# Altium footprint library kwPower.pcblib: 50 footprints (part 3 of 4)
Each footprint in its own frame and in the unit in brackets; x right, y up, seen from the top. Pads: shape width x height; smd on the part's side, far side on the other; paste and mask are expansions set on the pad; w line width, h text height; cw(c..) or ccw(c..) is an arc to the next point about the centre after c.
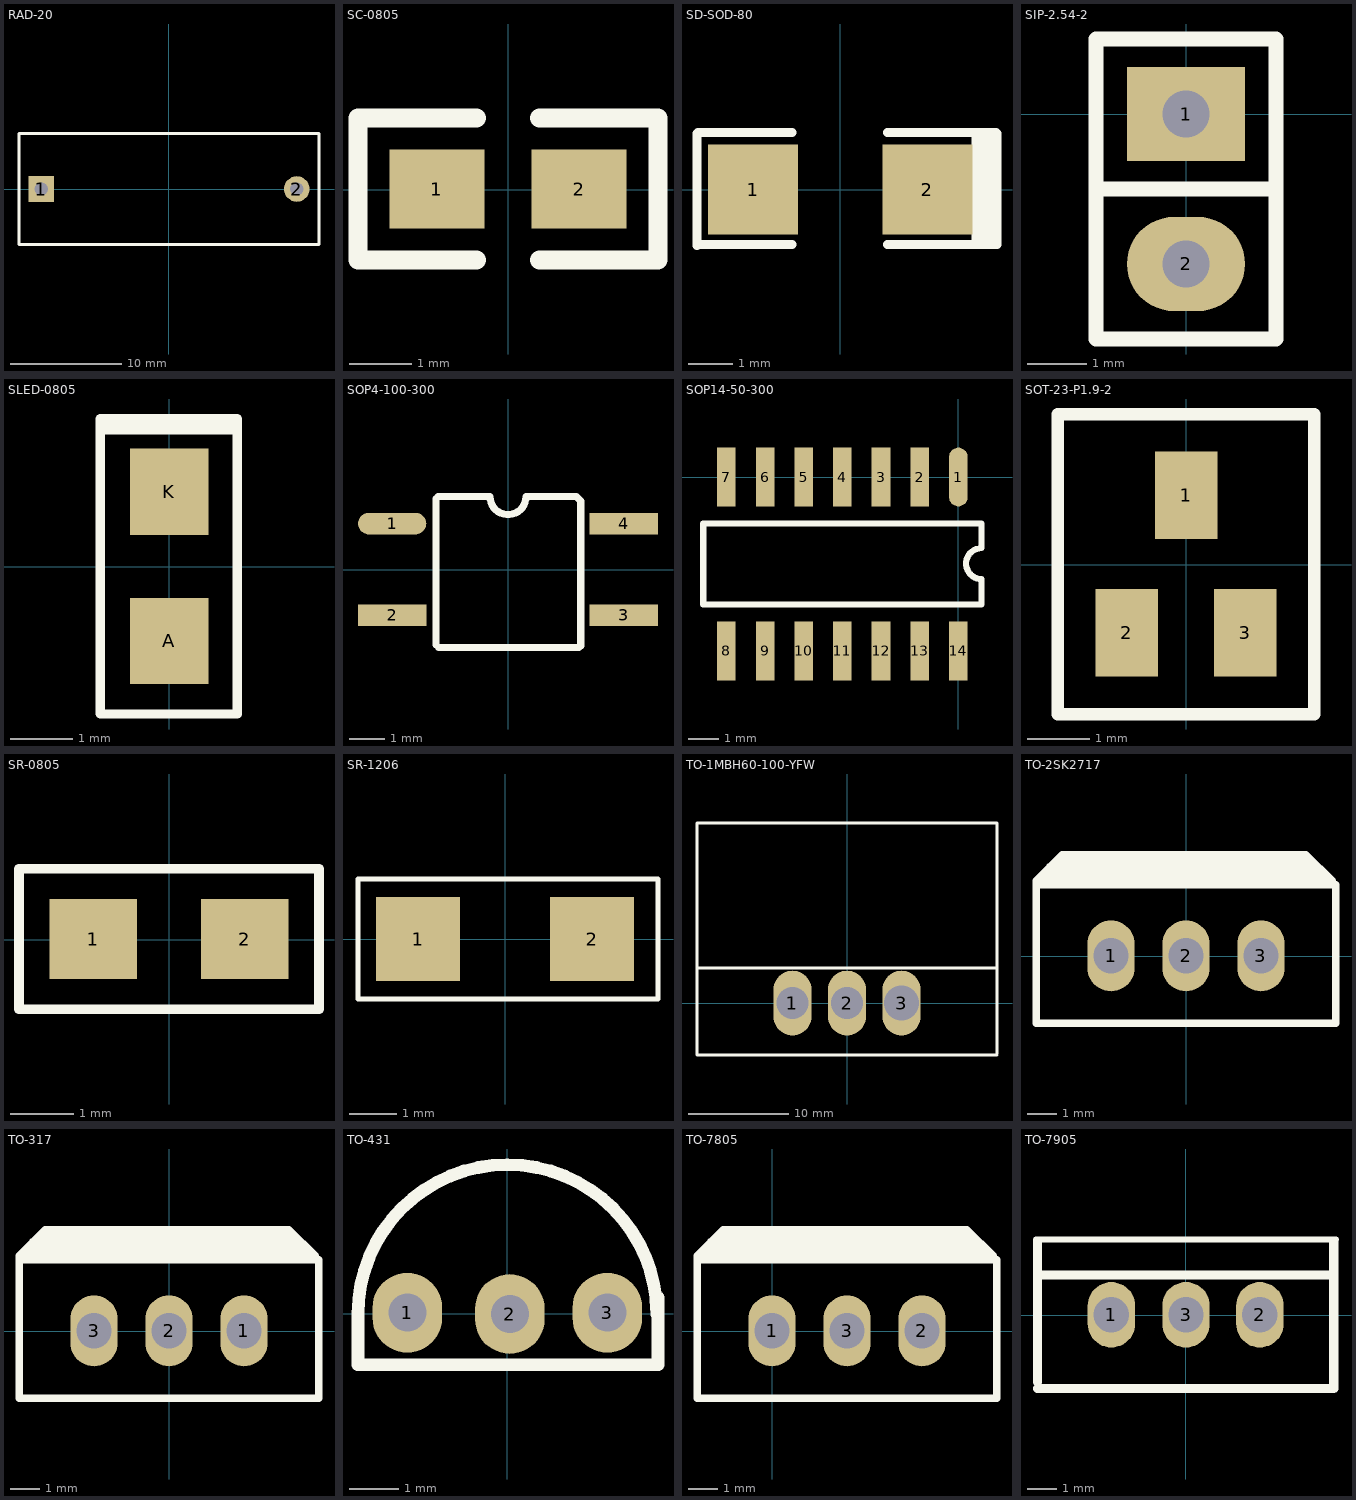
[diagram p2: the footprints below, top view; thin cyan lines are the x and y axes]

## RAD-20 [mm]
pads (2):
  rect 2.3x2.3 / inner round 2.1 / far side rect 2.3x2.3 hole 1.2: 1(-11.491,0.009)
  round 2.3 / inner round 2.1 / far side round 2.3 hole 1.2: 2(11.509,0.009)
TopOverlay:
  lines w0.254: -13.491,-4.991 13.509,-4.991 13.509,5.009 -13.491,5.009 -13.491,-4.991

## SC-0805 [mil]
pads (2):
  rect 60x50 smd: 1(-45,0.33) 2(45,0.33)
TopOverlay:
  lines w12: -20,-44.67 -95,-44.67 -95,45.33 -20,45.33 ; 20,-44.67 95,-44.67 95,45.33 20,45.33

## SD-SOD-80 [mil]
pads (2):
  rect 80x80 smd: 1(-77.5,0.33) 2(77.5,0.33)
TopOverlay:
  rectangle: 116.97,-49.04 139.47,50.96
  rectangle: 124.47,-49.04 139.47,50.96
  lines w7.87: 117,-48.67 139.5,-48.67 139.5,50.33 ; 117,51.33 138.5,51.33
  lines w8: -127.5,-49.67 -127.5,50.33 ; -126.5,-48.67 -118,-48.67 -43,-48.67 ; -126.5,51.33 -118,51.33 -43,51.33 ; 42,-48.67 117,-48.67 126.5,-48.67 ; 42,51.33 117,51.33

## SIP-2.54-2 [mm]
pads (2):
  rect 2x1.6 hole 0.8: 1(0,0.008)
  oval 2x1.6 hole 0.8: 2(0,-2.532)
TopOverlay:
  lines w0.254: -1.524,-1.262 1.524,-1.262 ; 0,1.278 -1.524,1.278 ; -1.524,1.278 1.524,1.278 1.524,-3.802 -1.524,-3.802 -1.524,1.278

## SLED-0805 [mil]
pads (2):
  rect 50x55 smd: A(0,-47.17) K(0,47.83)
TopOverlay:
  rectangle: -43.46,84.33 43.58,97.33
  lines w6: -43.74,-93.41 -43.74,94.22 ; -43.48,-93.67 43.41,-93.67 43.41,94.33

## SOP4-100-300 [mil]
pads (4):
  oval 76x24 smd: 1(-129.09,51.19)
  rect 76x24 smd: 2(-129.09,-50.81) 3(128.91,-50.81) 4(128.91,51.19)
TopOverlay:
  lines w8: -80.09,-83.81 -80.09,-27.81 ; -80.09,-35.81 -80.09,74.19 -80.09,79.19 ; -78.09,81.19 -52.09,81.19 -20.09,81.19 ccw(c-0.09,81.19) 19.91,81.19 52.91,81.19 75.91,81.19 80.91,76.19 80.91,-28.81 80.91,-84.81 ; -77.09,-86.81 -52.09,-86.81 52.91,-86.81 78.91,-86.81

## SOP14-50-300 [mil]
pads (14):
  oval 24x76 smd: 1(-0.09,0.19)
  rect 24x76 smd: 2(-50.09,0.19) 3(-100.09,0.19) 4(-150.09,0.19) 5(-200.09,0.19) 6(-250.09,0.19) 7(-300.09,0.19) 8(-300.09,-224.81) 9(-250.09,-224.81) 10(-200.09,-224.81) 11(-150.09,-224.81) 12(-100.09,-224.81) 13(-50.09,-224.81) 14(-0.09,-224.81)
TopOverlay:
  lines w8: -330.09,-164.81 29.91,-164.81 29.91,-131.81 cw(c29.91,-111.81) 29.91,-91.81 29.91,-59.81 -330.09,-59.81 -330.09,-164.81

## SOT-23-P1.9-2 [mm]
pads (3):
  rect 1x1.4 smd: 1(0,1.108) 2(-0.95,-1.092) 3(0.95,-1.092)
TopOverlay:
  lines w0.2: -2.05,-2.392 2.05,-2.392 2.05,2.408 -2.05,2.408 -2.05,-2.392

## SR-0805 [mil]
pads (2):
  rect 55x50 smd: 1(-47.5,0.33) 2(47.5,0.33)
TopOverlay:
  lines w6: -94,-43.67 -94,0.33 -94,44.33 94,44.33 94,-43.67 -94,-43.67

## SR-1206 [mil]
pads (2):
  rect 70x70 smd: 1(-72.5,0.33) 2(72.5,0.33)
TopOverlay:
  lines w4: 107.5,-49.67 127.5,-49.67 127.5,50.33 117.5,50.33 -122.5,50.33 -122.5,0.33 -122.5,-49.67 117.5,-49.67

## TO-1MBH60-100-YFW [mm]
pads (3):
  oval 3.8x6.5 hole 3.2: 1(-5.45,0.008) 2(0,0.008)
  oval 3.8x6.5 hole 3.5: 3(5.45,0.008)
TopOverlay:
  lines w0.3: -15,3.508 15,3.508 ; 15,-5.174 -15,-5.174 -15,18.008 15,18.008 15,-5.044

## TO-2SK2717 [mm]
pads (3):
  oval 1.6x2.4 hole 1.2: 1(-2.54,0.008) 2(0,0.008) 3(2.54,0.008)
TopOverlay:
  lines w0.254: -5.08,2.421 0,2.421 5.08,2.421 5.08,-2.278 -5.08,-2.278 -5.08,2.294 -5.08,2.548 -4.191,3.437 4.064,3.437 4.953,2.548 ; -4.95,2.678 4.823,2.678 4.836,2.665 ; -4.805,2.823 4.598,2.823 ; -4.607,3.021 4.41,3.021 ; -4.397,3.232 4.111,3.232

## TO-317 [mm]
pads (3):
  oval 1.6x2.4 hole 1.2: 1(2.54,0.008) 2(0,0.008) 3(-2.54,0.008)
TopOverlay:
  lines w0.254: -5.08,2.421 0,2.421 5.08,2.421 5.08,-2.278 -5.08,-2.278 -5.08,2.294 -5.08,2.548 -4.191,3.437 4.064,3.437 4.953,2.548 ; -4.95,2.678 4.823,2.678 4.836,2.665 ; -4.805,2.823 4.598,2.823 ; -4.607,3.021 4.41,3.021 ; -4.397,3.232 4.111,3.232

## TO-431 [mil]
pads (3):
  oval 55x63 hole 30: 1(-79,0.83) 2(2,-0.17) 3(79,0.83)
TopOverlay:
  lines w10: -118,-40.17 119,-40.17 ; -118,-38.17 -118,-33.17 -118,1.83 ; -118,-0.17 cw(c0,-0.17) 118,-0.17 ; 119,-38.17 119,12.83

## TO-7805 [mm]
pads (3):
  oval 1.6x2.4 hole 1.2: 1(0,0.008) 2(5.08,0.008) 3(2.54,0.008)
TopOverlay:
  lines w0.254: -2.54,2.421 2.54,2.421 7.62,2.421 7.62,-2.278 -2.54,-2.278 -2.54,2.294 -2.54,2.548 -1.651,3.437 6.604,3.437 7.493,2.548 ; -2.41,2.678 7.363,2.678 7.376,2.665 ; -2.265,2.823 7.138,2.823 ; -2.067,3.021 6.95,3.021 ; -1.857,3.232 6.651,3.232

## TO-7905 [mil]
pads (3):
  oval 63x87 hole 47: 1(-98.5,0.33) 2(98.5,0.33) 3(0.5,0.33)
TopOverlay:
  lines w8: -198.5,100.33 199.5,100.33
  lines w12: -196.5,-97.67 196.5,-97.67 196.5,98.33 ; -196.5,-88.67 -196.5,98.33 ; -193.5,53.33 193.5,53.33